# Altium integrated library Header9.5.IntLib: 11 symbols
Pins are listed as number, name and electrical type; pins without a type are passive.

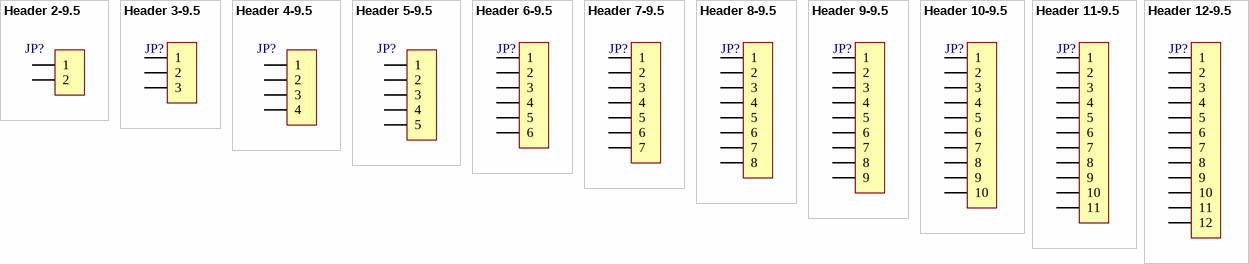
[diagram p0: symbols Header 2-9.5 to Header 12-9.5]

## Header 2-9.5
designator JP?, comment HDR-1X2  (value not drawn)
2P接插件; 版权归属: 源创客; BOM名称: 2P接插件; 学习资源: www.ooocke.com
footprint KFHB9500-LI-2P (长：18mm，宽：19.1mm，高：14)
pins: 1, 2

## Header 3-9.5
designator JP?, comment HDR-1X3  (value not drawn)
3P接插件; 版权归属: 源创客; BOM名称: 3P接插件; 学习资源: www.ooocke.com
footprint KFHB9500-LI-3P (长：18mm，宽：28.6mm，高：14)
pins: 1, 2, 3

## Header 4-9.5
designator JP?, comment HDR-1X4  (value not drawn)
4P接插件; 版权归属: 源创客; BOM名称: 4P接插件; 学习资源: www.ooocke.com
footprint KFHB9500-LI-4P (长：18mm，宽：38.1mm，高：14)
pins: 1, 2, 3, 4

## Header 5-9.5
designator JP?, comment HDR-1X5  (value not drawn)
5P接插件; 版权归属: 源创客; BOM名称: 5P接插件; 学习资源: www.ooocke.com
footprint KFHB9500-LI-5P (长：18mm，宽：47.6mm，高：14)
pins: 1, 2, 3, 4, 5

## Header 6-9.5
designator JP?, comment HDR-1X6  (value not drawn)
6P接插件; 版权归属: 源创客; BOM名称: 6P接插件; 学习资源: www.ooocke.com
footprint KFHB9500-LI-6P (长：18mm，宽：57.1mm，高：14)
pins: 1, 2, 3, 4, 5, 6

## Header 7-9.5
designator JP?, comment HDR-1X7  (value not drawn)
7P接插件; 版权归属: 源创客; BOM名称: 7P接插件; 学习资源: www.ooocke.com
footprint KFHB9500-LI-7P (长：18mm，宽：66.6mm，高：14)
pins: 1, 2, 3, 4, 5, 6, 7

## Header 8-9.5
designator JP?, comment HDR-1X8  (value not drawn)
8P接插件; 版权归属: 源创客; BOM名称: 8P接插件; 学习资源: www.ooocke.com
footprint KFHB9500-LI-8P (长：18mm，宽：76.1mm，高：14)
pins: 1, 2, 3, 4, 5, 6, 7, 8

## Header 9-9.5
designator JP?, comment HDR-1X9  (value not drawn)
9P接插件; 版权归属: 源创客; BOM名称: 9P接插件; 学习资源: www.ooocke.com
footprint KFHB9500-LI-9P (长：18mm，宽：85.6mm，高：14)
pins: 1, 2, 3, 4, 5, 6, 7, 8, 9

## Header 10-9.5
designator JP?, comment HDR-1X10  (value not drawn)
10P接插件; 版权归属: 源创客; BOM名称: 10P接插件; 学习资源: www.ooocke.com
footprint KF7620-10P (61*12*12mm(长宽高))
footprint KFHB9500-LI-10P (长：18mm，宽：95.1mm，高：14)
pins: 1, 2, 3, 4, 5, 6, 7, 8, 9, 10

## Header 11-9.5
designator JP?, comment HDR-1X11  (value not drawn)
11P接插件; 版权归属: 源创客; BOM名称: 11P接插件; 学习资源: www.ooocke.com
footprint KFHB9500-LI-11P (长：18mm，宽：104.6mm，高：14)
pins: 1, 2, 3, 4, 5, 6, 7, 8, 9, 10, 11

## Header 12-9.5
designator JP?, comment HDR-1X12  (value not drawn)
12P接插件; 版权归属: 源创客; BOM名称: 12P接插件; 学习资源: www.ooocke.com
footprint KFHB9500-LI-12P (长：18mm，宽：114.1mm，高：14)
pins: 1, 2, 3, 4, 5, 6, 7, 8, 9, 10, 11, 12